# EAGLE library part 1554ИЕ19 (library std-logic-1554series)
АЕЯР.431200.182-03 ТУ 1554ИЕ19 - Два четырехразрядных двоичных счетчика с индивидуальной синхронизацией и сбросом. Изготовитель: ОАО "ИНТЕГРАЛ", г. Минск, р. Беларусь. Технические условия (ТБМ): АЕЯР.431200.182-03 ТУ Технические условия (не ТБМ): АЕЯР.431200.093-04 ТУ
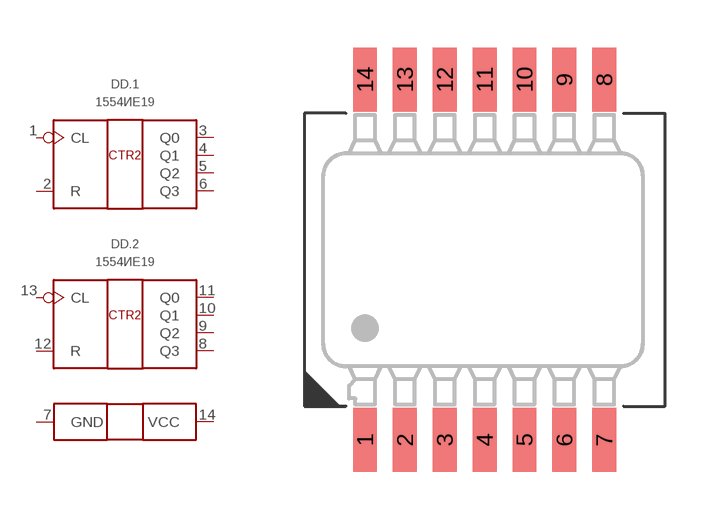
[diagram p35: symbol with the pads of 401.14-5; footprint 401.14-5]

Designator prefix DD; gates .1=1554ИЕ19 .2=1554ИЕ19 G$1=1554_PWR1

## 1554ИЕ19ТБМ  [401.14-5]
1  .1:CL  in
2  .1:R  in
3  .1:Q0  out
4  .1:Q1  out
5  .1:Q2  out
6  .1:Q3  out
7  G$1:GND  pwr
8  .2:Q3  out
9  .2:Q2  out
10  .2:Q1  out
11  .2:Q0  out
12  .2:R  in
13  .2:CL  in
14  G$1:VCC  pwr

## Footprint 401.14-5 (pad centres in mm)
smd 0.75 x 2: 1 -3.7,-5.65; 2 -2.45,-5.65; 3 -1.2,-5.65; 4 0.05,-5.65; 5 1.3,-5.65; 6 2.55,-5.65; 7 3.8,-5.65; 8 3.8,5.65; 9 2.55,5.65; 10 1.3,5.65; 11 0.05,5.65; 12 -1.2,5.65; 13 -2.45,5.65; 14 -3.7,5.65